# EAGLE library part 750813002 (library Wurth_Power Magnetics_WE-OLLT)
WE-OLLT Offline Flyback Transformers Characteristics Flyback topology Designs for Universal, US and European input voltages Low leakage inductance Isolation voltage up to 4500VAC Operating temperature: –40 °C to +125 °C Most products meet reinforced insulation Applications Offline Applications High DC VIN Isolated Applications Offline Bus Converter (12V, 24V or 48V Outputs) Industrial power supplies Medical power supplies Auxiliary power supply Home appliances Consumer electronics <https://www.we-online.com/components/media/o784499v209%20FAMILY-MID-OLLT-mixed.jpg> Details see: www.we-online.com/en/components/products/WE-OLLT <www.we-online.com/catalog/WE-OLLT/?utm_source=eagle_model&utm_medium=description_link&utm_campaign=eisos_eagle> Created by Ella Wu 2024-07-03 2024 (C) Wurth Elektronik
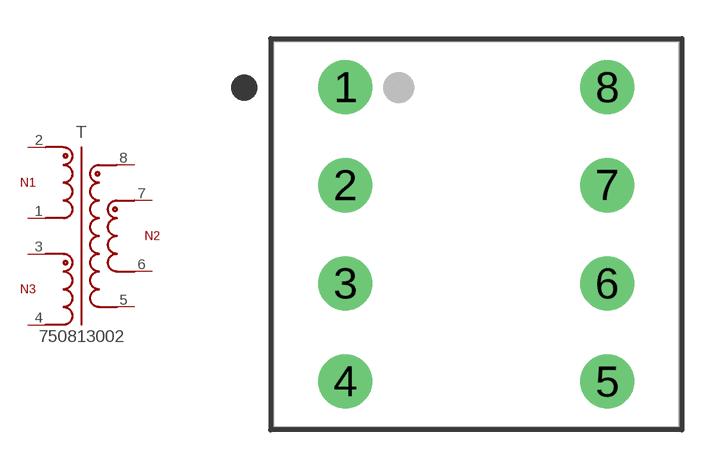
[diagram p12: symbol with the pads of WE-OLLT_EE13/6/6_L15W15.75H18.5; footprint WE-OLLT_EE13/6/6_L15W15.75H18.5]

Designator prefix T

## 750813002 (DATASHEET-URL: https://www.we-online.com/redexpert/spec/750813002?ae; FSWITCH: 100kHz; HEIGHT: 18.5mm; IOUT1: 1000A; ISAT: 350V; L: 2uH; LENGTH: 15mm; MOUNT: THT; N: 20:1:5; PART-NUMBER: 750813002; SIZE: EE13/6/6; VALUE: 750813002; VAUX: 17V; VIN: 85 - 265 V (AC); VOUT1: 3.4V; VT: 4500V(AC); WIDTH: 15.75mm)  [WE-OLLT_EE13/6/6_L15W15.75H18.5]
1  1  pas
2  2  pas
3  3  pas
4  4  pas
5  5  pas
6  6  pas
7  7  pas
8  8  pas

## Footprint WE-OLLT_EE13/6/6_L15W15.75H18.5 (pad centres in mm)
WE-OLLT Offline Flyback Transformers Size: EE13/6/6,THT,8pins LXWXH=15X15.75X18.5mm
drill 1.4: 1 -5.08,5.715; 2 -5.08,1.905; 3 -5.08,-1.905; 4 -5.08,-5.715; 5 5.08,-5.715; 6 5.08,-1.905; 7 5.08,1.905; 8 5.08,5.715